# Altium integrated library NSC ADC.IntLib: 493 symbols (part 10 of 17)
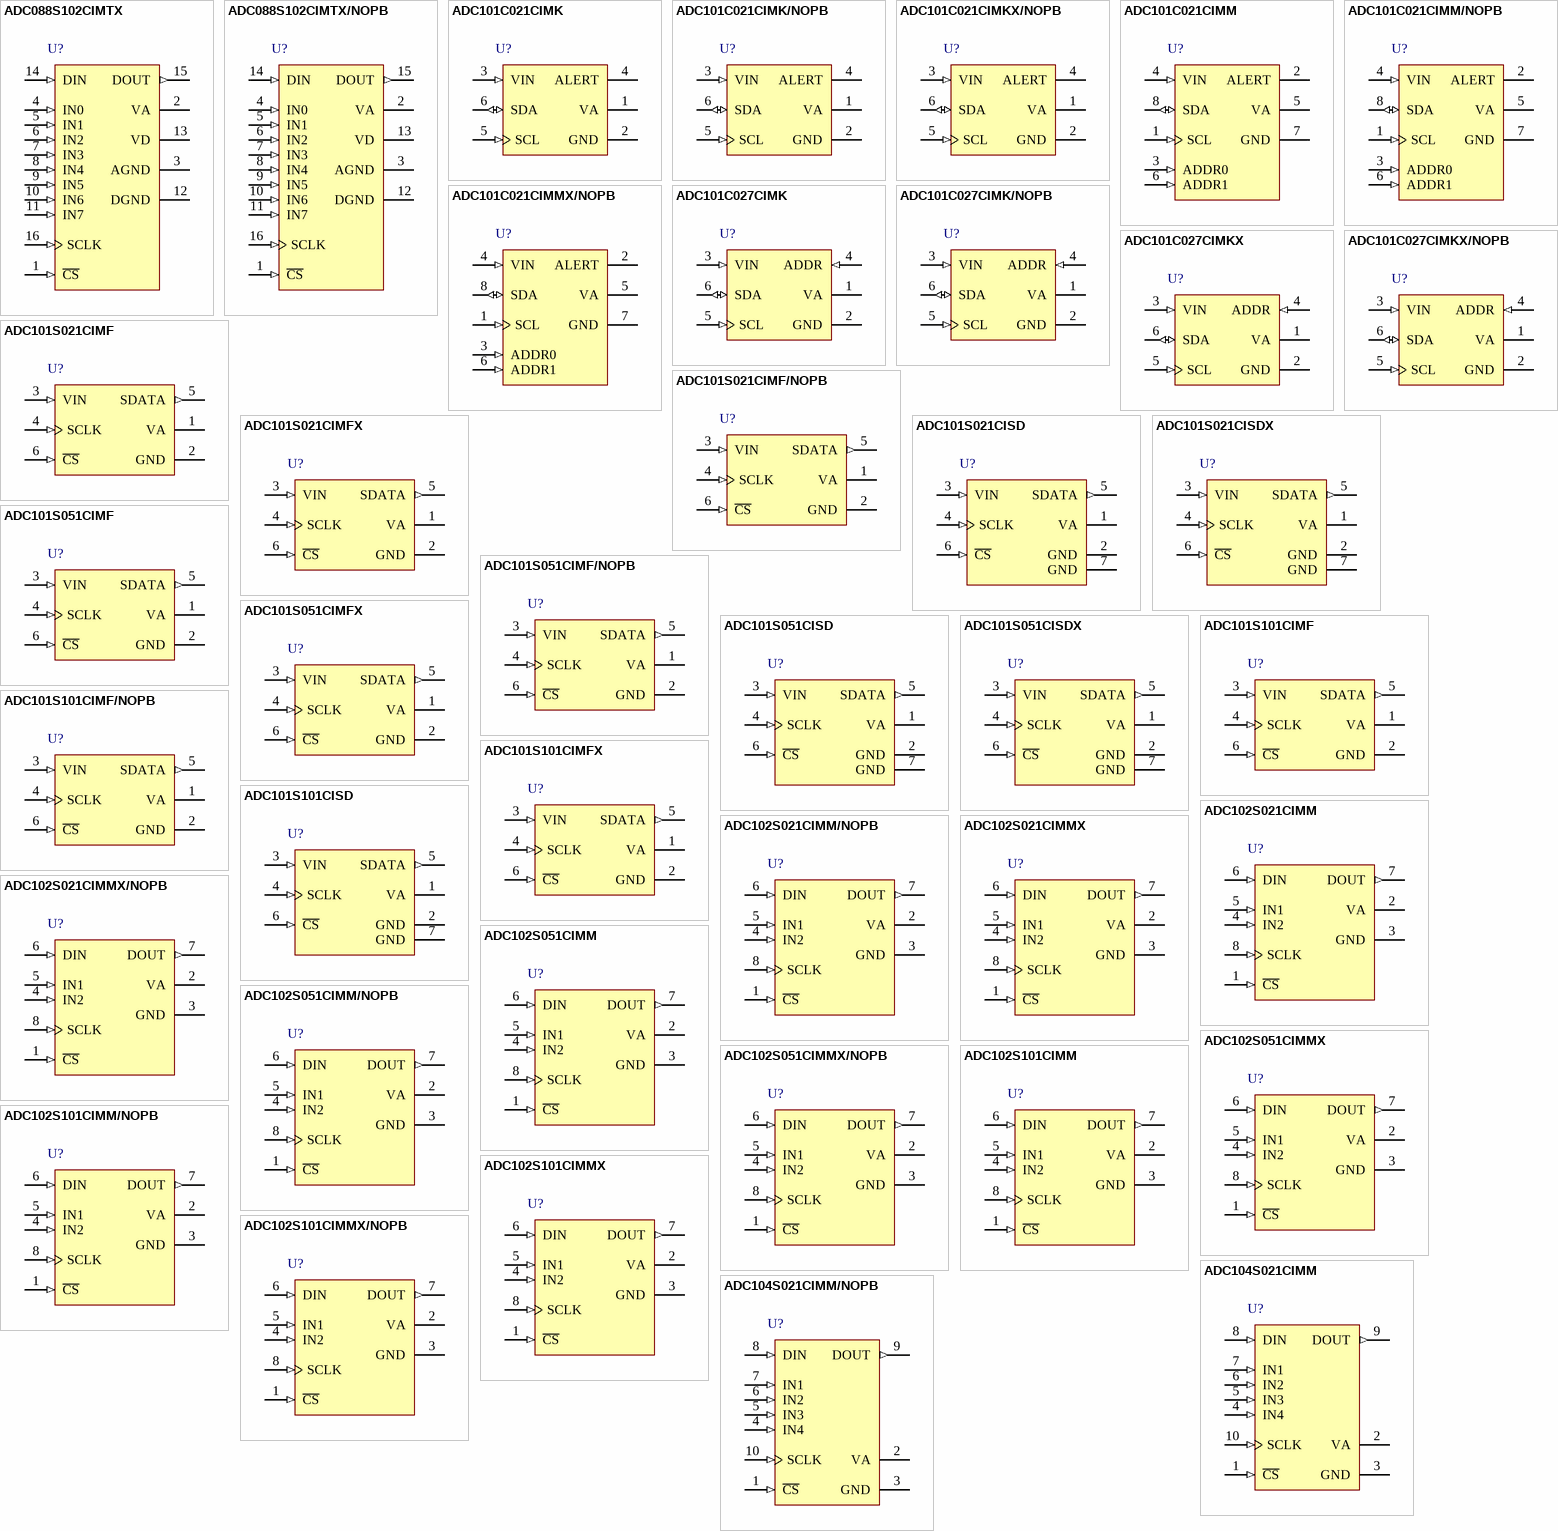
[diagram p45: symbols ADC088S102CIMTX to ADC104S021CIMM/NOPB]

## ADC101S101CISD
designator U?
1MSPS, 10-Bit A/D Converter, 7-pin LLP; PartNumber: ADC101S101CISD; Manufacturer: National Semiconductor; PackageTopMarking: XTT*X2C; PowerWise: Y; CompType: ADC IC; Published: 4-Dec-2008; DatasheetVersion: Jan-2010; PackageVersion: revA, Nov-2003; PackageReference: SDB06A; Publisher: Altium Limited; PackageDescription: LLP, Plastic, Dual, 2.2 x 2.5 x 0.8mm Body, 6 Lead, 0.65mm Pitch, No Pullback; Supplier 1: Farnell; Supplier Part Number 1: 1312530; RoHS: N; PinCount: 6; ComponentLink1Description: ADC101S101 Datasheet; ComponentLink1URL: http://www.national.com/ds/AD/ADC101S101.pdf; ComponentLink2Description: ADC101S101 Web Page; ComponentLink2URL: http://www.national.com/pf/AD/ADC101S101.html; ComponentLink3Description: SDB06A Package Page; ComponentLink3URL: http://www.national.com/packaging/folders/sdb06a.html
footprint SDB06A (SON, 6-Leads, Body 2.2x2.5mm, Pitch 0.65mm, NSC Recommended (SC-70 Land))
pins: 1 VA (power), 2 GND (power), 3 VIN (in), 4 SCLK (in), 5 SDATA (out), 6 ~{CS} (in), 7 GND (power)

## ADC102S021CIMM
designator U?
2 Channel, 200 kSPS, 10-Bit A/D Converter, 8-pin Mini SOIC; PartNumber: ADC102S021CIMM; Manufacturer: National Semiconductor; PackageTopMarking: ZXTT*X17C; PowerWise: Y; CompType: ADC IC; Published: 4-Dec-2008; DatasheetVersion: Jan-2010; PackageVersion: revF, Apr-2008; PackageReference: MUA08A; Publisher: Altium Limited; PackageDescription: MINI SOIC, .118 x .118 x .034in, 8 Lead, .0256in Pitch; Supplier 1: Farnell; Supplier Part Number 1: 1007986; RoHS: N; PinCount: 8; Code_JEDEC: MO-187-AA; ComponentLink1Description: ADC102S021 Datasheet; ComponentLink1URL: http://www.national.com/ds/AD/ADC102S021.pdf; ComponentLink2Description: ADC102S021 Web Page; ComponentLink2URL: http://www.national.com/pf/AD/ADC102S021.html; ComponentLink3Description: MUA08A Package Page; ComponentLink3URL: http://www.national.com/packaging/folders/mua08a.html
footprint MUA08A_N (TSOP, 8-Leads, Body 3x3mm, Pitch 0.65mm, IPC Medium Density)
footprint MUA08A_L (TSOP, 8-Leads, Body 3x3mm, Pitch 0.65mm, IPC High Density)
footprint MUA08A_M (TSOP, 8-Leads, Body 3x3mm, Pitch 0.65mm, IPC Low Density)
pins: 1 ~{CS} (in), 2 VA (power), 3 GND (power), 4 IN2 (in), 5 IN1 (in), 6 DIN (in), 7 DOUT (out), 8 SCLK (in)

## ADC102S021CIMM/NOPB
designator U?
2 Channel, 50 kSPS to 200 kSPS, 10-Bit A/D Converter, 8-pin Mini SOIC, Pb-Free; PartNumber: ADC102S021CIMM/NOPB; Manufacturer: National Semiconductor; PackageTopMarking: ZXTT*X17C; PowerWise: Y; CompType: ADC IC; Published: 1-Mar-2010; DatasheetVersion: Jan-2010; PackageVersion: revF, Apr-2008; PackageReference: MUA08A; Publisher: Altium Limited; PackageDescription: MINI SOIC, .118 x .118 x .034in, 8 Lead, .0256in Pitch; Supplier 1: Digi-Key; Supplier Part Number 1: ADC102S021CIMMTR-ND; Supplier 2: Digi-Key; Supplier Part Number 2: ADC102S021CIMMCT-ND; Supplier 3: Digi-Key; Supplier Part Number 3: ADC102S021CIMMDKR-ND; RoHS: Y; PinCount: 8; Code_JEDEC: MO-187-AA; ComponentLink1Description: ADC102S021 Datasheet; ComponentLink1URL: http://www.national.com/ds/AD/ADC102S021.pdf; ComponentLink2Description: ADC102S021 Web Page; ComponentLink2URL: http://www.national.com/pf/AD/ADC102S021.html; ComponentLink3Description: MUA08A Package Page; ComponentLink3URL: http://www.national.com/packaging/folders/mua08a.html
footprint MUA08A_N (TSOP, 8-Leads, Body 3x3mm, Pitch 0.65mm, IPC Medium Density)
footprint MUA08A_L (TSOP, 8-Leads, Body 3x3mm, Pitch 0.65mm, IPC High Density)
footprint MUA08A_M (TSOP, 8-Leads, Body 3x3mm, Pitch 0.65mm, IPC Low Density)
pins: 1 ~{CS} (in), 2 VA (power), 3 GND (power), 4 IN2 (in), 5 IN1 (in), 6 DIN (in), 7 DOUT (out), 8 SCLK (in)

## ADC102S021CIMMX
designator U?
2 Channel, 50 kSPS to 200 kSPS, 10-Bit A/D Converter, 8-pin Mini SOIC; PartNumber: ADC102S021CIMMX; Manufacturer: National Semiconductor; PackageTopMarking: ZXTT*X17C; PowerWise: Y; CompType: ADC IC; Published: 1-Mar-2010; DatasheetVersion: Jan-2010; PackageVersion: revF, Apr-2008; PackageReference: MUA08A; Publisher: Altium Limited; PackageDescription: MINI SOIC, .118 x .118 x .034in, 8 Lead, .0256in Pitch; RoHS: N; PinCount: 8; Code_JEDEC: MO-187-AA; ComponentLink1Description: ADC102S021 Datasheet; ComponentLink1URL: http://www.national.com/ds/AD/ADC102S021.pdf; ComponentLink2Description: ADC102S021 Web Page; ComponentLink2URL: http://www.national.com/pf/AD/ADC102S021.html; ComponentLink3Description: MUA08A Package Page; ComponentLink3URL: http://www.national.com/packaging/folders/mua08a.html
footprint MUA08A_N (TSOP, 8-Leads, Body 3x3mm, Pitch 0.65mm, IPC Medium Density)
footprint MUA08A_L (TSOP, 8-Leads, Body 3x3mm, Pitch 0.65mm, IPC High Density)
footprint MUA08A_M (TSOP, 8-Leads, Body 3x3mm, Pitch 0.65mm, IPC Low Density)
pins: 1 ~{CS} (in), 2 VA (power), 3 GND (power), 4 IN2 (in), 5 IN1 (in), 6 DIN (in), 7 DOUT (out), 8 SCLK (in)

## ADC102S021CIMMX/NOPB
designator U?
2 Channel, 50 kSPS to 200 kSPS, 10-Bit A/D Converter, 8-pin Mini SOIC, Pb-Free; PartNumber: ADC102S021CIMMX/NOPB; Manufacturer: National Semiconductor; PackageTopMarking: ZXTT*X17C; PowerWise: Y; CompType: ADC IC; Published: 1-Mar-2010; DatasheetVersion: Jan-2010; PackageVersion: revF, Apr-2008; PackageReference: MUA08A; Publisher: Altium Limited; PackageDescription: MINI SOIC, .118 x .118 x .034in, 8 Lead, .0256in Pitch; Supplier 1: Digi-Key; Supplier Part Number 1: ADC102S021CIMMX-ND; RoHS: Y; PinCount: 8; Code_JEDEC: MO-187-AA; ComponentLink1Description: ADC102S021 Datasheet; ComponentLink1URL: http://www.national.com/ds/AD/ADC102S021.pdf; ComponentLink2Description: ADC102S021 Web Page; ComponentLink2URL: http://www.national.com/pf/AD/ADC102S021.html; ComponentLink3Description: MUA08A Package Page; ComponentLink3URL: http://www.national.com/packaging/folders/mua08a.html
footprint MUA08A_N (TSOP, 8-Leads, Body 3x3mm, Pitch 0.65mm, IPC Medium Density)
footprint MUA08A_L (TSOP, 8-Leads, Body 3x3mm, Pitch 0.65mm, IPC High Density)
footprint MUA08A_M (TSOP, 8-Leads, Body 3x3mm, Pitch 0.65mm, IPC Low Density)
pins: 1 ~{CS} (in), 2 VA (power), 3 GND (power), 4 IN2 (in), 5 IN1 (in), 6 DIN (in), 7 DOUT (out), 8 SCLK (in)

## ADC102S051CIMM
designator U?
2 Channel, 500 kSPS, 10-Bit A/D Converter, 8-pin Mini SOIC; PartNumber: ADC102S051CIMM; Manufacturer: National Semiconductor; PackageTopMarking: ZXTT*X05C; PowerWise: Y; CompType: ADC IC; Published: 4-Dec-2008; DatasheetVersion: Jan-2010; PackageVersion: revF, Apr-2008; PackageReference: MUA08A; Publisher: Altium Limited; PackageDescription: MINI SOIC, .118 x .118 x .034in, 8 Lead, .0256in Pitch; Supplier 1: Farnell; Supplier Part Number 1: 1007987; RoHS: N; PinCount: 8; Code_JEDEC: MO-187-AA; ComponentLink1Description: ADC102S051 Datasheet; ComponentLink1URL: http://www.national.com/ds/AD/ADC102S051.pdf; ComponentLink2Description: ADC102S051 Web Page; ComponentLink2URL: http://www.national.com/pf/AD/ADC102S051.html; ComponentLink3Description: MUA08A Package Page; ComponentLink3URL: http://www.national.com/packaging/folders/mua08a.html
footprint MUA08A_N (TSOP, 8-Leads, Body 3x3mm, Pitch 0.65mm, IPC Medium Density)
footprint MUA08A_L (TSOP, 8-Leads, Body 3x3mm, Pitch 0.65mm, IPC High Density)
footprint MUA08A_M (TSOP, 8-Leads, Body 3x3mm, Pitch 0.65mm, IPC Low Density)
pins: 1 ~{CS} (in), 2 VA (power), 3 GND (power), 4 IN2 (in), 5 IN1 (in), 6 DIN (in), 7 DOUT (out), 8 SCLK (in)

## ADC102S051CIMM/NOPB
designator U?
2 Channel, 200 kSPS to 500 kSPS, 10-Bit A/D Converter, 8-pin Mini SOIC, Pb-Free; PartNumber: ADC102S051CIMM/NOPB; Manufacturer: National Semiconductor; PackageTopMarking: ZXTT*X05C; PowerWise: Y; CompType: ADC IC; Published: 1-Mar-2010; DatasheetVersion: Jan-2010; PackageVersion: revF, Apr-2008; PackageReference: MUA08A; Publisher: Altium Limited; PackageDescription: MINI SOIC, .118 x .118 x .034in, 8 Lead, .0256in Pitch; Supplier 1: Digi-Key; Supplier Part Number 1: ADC102S051CIMMTR-ND; Supplier 2: Digi-Key; Supplier Part Number 2: ADC102S051CIMMCT-ND; Supplier 3: Digi-Key; Supplier Part Number 3: ADC102S051CIMMDKR-ND; RoHS: Y; PinCount: 8; Code_JEDEC: MO-187-AA; ComponentLink1Description: ADC102S051 Datasheet; ComponentLink1URL: http://www.national.com/ds/AD/ADC102S051.pdf; ComponentLink2Description: ADC102S051 Web Page; ComponentLink2URL: http://www.national.com/pf/AD/ADC102S051.html; ComponentLink3Description: MUA08A Package Page; ComponentLink3URL: http://www.national.com/packaging/folders/mua08a.html
footprint MUA08A_N (TSOP, 8-Leads, Body 3x3mm, Pitch 0.65mm, IPC Medium Density)
footprint MUA08A_L (TSOP, 8-Leads, Body 3x3mm, Pitch 0.65mm, IPC High Density)
footprint MUA08A_M (TSOP, 8-Leads, Body 3x3mm, Pitch 0.65mm, IPC Low Density)
pins: 1 ~{CS} (in), 2 VA (power), 3 GND (power), 4 IN2 (in), 5 IN1 (in), 6 DIN (in), 7 DOUT (out), 8 SCLK (in)

## ADC102S051CIMMX
designator U?
2 Channel, 200 kSPS to 500 kSPS, 10-Bit A/D Converter, 8-pin Mini SOIC; PartNumber: ADC102S051CIMMX; Manufacturer: National Semiconductor; PackageTopMarking: ZXTT*X05C; PowerWise: Y; CompType: ADC IC; Published: 1-Mar-2010; DatasheetVersion: Jan-2010; PackageVersion: revF, Apr-2008; PackageReference: MUA08A; Publisher: Altium Limited; PackageDescription: MINI SOIC, .118 x .118 x .034in, 8 Lead, .0256in Pitch; RoHS: N; PinCount: 8; Code_JEDEC: MO-187-AA; ComponentLink1Description: ADC102S051 Datasheet; ComponentLink1URL: http://www.national.com/ds/AD/ADC102S051.pdf; ComponentLink2Description: ADC102S051 Web Page; ComponentLink2URL: http://www.national.com/pf/AD/ADC102S051.html; ComponentLink3Description: MUA08A Package Page; ComponentLink3URL: http://www.national.com/packaging/folders/mua08a.html
footprint MUA08A_N (TSOP, 8-Leads, Body 3x3mm, Pitch 0.65mm, IPC Medium Density)
footprint MUA08A_L (TSOP, 8-Leads, Body 3x3mm, Pitch 0.65mm, IPC High Density)
footprint MUA08A_M (TSOP, 8-Leads, Body 3x3mm, Pitch 0.65mm, IPC Low Density)
pins: 1 ~{CS} (in), 2 VA (power), 3 GND (power), 4 IN2 (in), 5 IN1 (in), 6 DIN (in), 7 DOUT (out), 8 SCLK (in)

## ADC102S051CIMMX/NOPB
designator U?
2 Channel, 200 kSPS to 500 kSPS, 10-Bit A/D Converter, 8-pin Mini SOIC, Pb-Free; PartNumber: ADC102S051CIMMX/NOPB; Manufacturer: National Semiconductor; PackageTopMarking: ZXTT*X05C; PowerWise: Y; CompType: ADC IC; Published: 1-Mar-2010; DatasheetVersion: Jan-2010; PackageVersion: revF, Apr-2008; PackageReference: MUA08A; Publisher: Altium Limited; PackageDescription: MINI SOIC, .118 x .118 x .034in, 8 Lead, .0256in Pitch; Supplier 1: Digi-Key; Supplier Part Number 1: ADC102S051CIMMX-ND; RoHS: Y; PinCount: 8; Code_JEDEC: MO-187-AA; ComponentLink1Description: ADC102S051 Datasheet; ComponentLink1URL: http://www.national.com/ds/AD/ADC102S051.pdf; ComponentLink2Description: ADC102S051 Web Page; ComponentLink2URL: http://www.national.com/pf/AD/ADC102S051.html; ComponentLink3Description: MUA08A Package Page; ComponentLink3URL: http://www.national.com/packaging/folders/mua08a.html
footprint MUA08A_N (TSOP, 8-Leads, Body 3x3mm, Pitch 0.65mm, IPC Medium Density)
footprint MUA08A_L (TSOP, 8-Leads, Body 3x3mm, Pitch 0.65mm, IPC High Density)
footprint MUA08A_M (TSOP, 8-Leads, Body 3x3mm, Pitch 0.65mm, IPC Low Density)
pins: 1 ~{CS} (in), 2 VA (power), 3 GND (power), 4 IN2 (in), 5 IN1 (in), 6 DIN (in), 7 DOUT (out), 8 SCLK (in)

## ADC102S101CIMM
designator U?
2 Channel, 1 MSPS, 10-Bit A/D Converter, 8-pin Mini SOIC; PartNumber: ADC102S101CIMM; Manufacturer: National Semiconductor; PackageTopMarking: ZXTT*X23C; PowerWise: Y; CompType: ADC IC; Published: 4-Dec-2008; DatasheetVersion: Jan-2010; PackageVersion: revF, Apr-2008; PackageReference: MUA08A; Publisher: Altium Limited; PackageDescription: MINI SOIC, .118 x .118 x .034in, 8 Lead, .0256in Pitch; Supplier 1: Farnell; Supplier Part Number 1: 1007988; RoHS: N; PinCount: 8; Code_JEDEC: MO-187-AA; ComponentLink1Description: ADC102S101 Datasheet; ComponentLink1URL: http://www.national.com/ds/AD/ADC102S101.pdf; ComponentLink2Description: ADC102S101 Web Page; ComponentLink2URL: http://www.national.com/pf/AD/ADC102S101.html; ComponentLink3Description: MUA08A Package Page; ComponentLink3URL: http://www.national.com/packaging/folders/mua08a.html
footprint MUA08A_N (TSOP, 8-Leads, Body 3x3mm, Pitch 0.65mm, IPC Medium Density)
footprint MUA08A_L (TSOP, 8-Leads, Body 3x3mm, Pitch 0.65mm, IPC High Density)
footprint MUA08A_M (TSOP, 8-Leads, Body 3x3mm, Pitch 0.65mm, IPC Low Density)
pins: 1 ~{CS} (in), 2 VA (power), 3 GND (power), 4 IN2 (in), 5 IN1 (in), 6 DIN (in), 7 DOUT (out), 8 SCLK (in)

## ADC102S101CIMM/NOPB
designator U?
2 Channel, 500 kSPS to 1 MSPS, 10-Bit A/D Converter, 8-pin Mini SOIC, Pb-Free; PartNumber: ADC102S101CIMM/NOPB; Manufacturer: National Semiconductor; PackageTopMarking: ZXTT*X23C; PowerWise: Y; CompType: ADC IC; Published: 1-Mar-2010; DatasheetVersion: Jan-2010; PackageVersion: revF, Apr-2008; PackageReference: MUA08A; Publisher: Altium Limited; PackageDescription: MINI SOIC, .118 x .118 x .034in, 8 Lead, .0256in Pitch; Supplier 1: Digi-Key; Supplier Part Number 1: ADC102S101CIMMTR-ND; Supplier 2: Digi-Key; Supplier Part Number 2: ADC102S101CIMMCT-ND; Supplier 3: Digi-Key; Supplier Part Number 3: ADC102S101CIMMDKR-ND; Supplier 4: Farnell; Supplier Part Number 4: 1149931; RoHS: Y; PinCount: 8; Code_JEDEC: MO-187-AA; ComponentLink1Description: ADC102S101 Datasheet; ComponentLink1URL: http://www.national.com/ds/AD/ADC102S101.pdf; ComponentLink2Description: ADC102S101 Web Page; ComponentLink2URL: http://www.national.com/pf/AD/ADC102S101.html; ComponentLink3Description: MUA08A Package Page; ComponentLink3URL: http://www.national.com/packaging/folders/mua08a.html
footprint MUA08A_N (TSOP, 8-Leads, Body 3x3mm, Pitch 0.65mm, IPC Medium Density)
footprint MUA08A_L (TSOP, 8-Leads, Body 3x3mm, Pitch 0.65mm, IPC High Density)
footprint MUA08A_M (TSOP, 8-Leads, Body 3x3mm, Pitch 0.65mm, IPC Low Density)
pins: 1 ~{CS} (in), 2 VA (power), 3 GND (power), 4 IN2 (in), 5 IN1 (in), 6 DIN (in), 7 DOUT (out), 8 SCLK (in)

## ADC102S101CIMMX
designator U?
2 Channel, 500 kSPS to 1 MSPS, 10-Bit A/D Converter, 8-pin Mini SOIC; PartNumber: ADC102S101CIMMX; Manufacturer: National Semiconductor; PackageTopMarking: ZXTT*X23C; PowerWise: Y; CompType: ADC IC; Published: 1-Mar-2010; DatasheetVersion: Jan-2010; PackageVersion: revF, Apr-2008; PackageReference: MUA08A; Publisher: Altium Limited; PackageDescription: MINI SOIC, .118 x .118 x .034in, 8 Lead, .0256in Pitch; RoHS: N; PinCount: 8; Code_JEDEC: MO-187-AA; ComponentLink1Description: ADC102S101 Datasheet; ComponentLink1URL: http://www.national.com/ds/AD/ADC102S101.pdf; ComponentLink2Description: ADC102S101 Web Page; ComponentLink2URL: http://www.national.com/pf/AD/ADC102S101.html; ComponentLink3Description: MUA08A Package Page; ComponentLink3URL: http://www.national.com/packaging/folders/mua08a.html
footprint MUA08A_N (TSOP, 8-Leads, Body 3x3mm, Pitch 0.65mm, IPC Medium Density)
footprint MUA08A_L (TSOP, 8-Leads, Body 3x3mm, Pitch 0.65mm, IPC High Density)
footprint MUA08A_M (TSOP, 8-Leads, Body 3x3mm, Pitch 0.65mm, IPC Low Density)
pins: 1 ~{CS} (in), 2 VA (power), 3 GND (power), 4 IN2 (in), 5 IN1 (in), 6 DIN (in), 7 DOUT (out), 8 SCLK (in)

## ADC102S101CIMMX/NOPB
designator U?
2 Channel, 500 kSPS to 1 MSPS, 10-Bit A/D Converter, 8-pin Mini SOIC, Pb-Free; PartNumber: ADC102S101CIMMX/NOPB; Manufacturer: National Semiconductor; PackageTopMarking: ZXTT*X23C; PowerWise: Y; CompType: ADC IC; Published: 1-Mar-2010; DatasheetVersion: Jan-2010; PackageVersion: revF, Apr-2008; PackageReference: MUA08A; Publisher: Altium Limited; PackageDescription: MINI SOIC, .118 x .118 x .034in, 8 Lead, .0256in Pitch; Supplier 1: Digi-Key; Supplier Part Number 1: ADC102S101CIMMX-ND; RoHS: Y; PinCount: 8; Code_JEDEC: MO-187-AA; ComponentLink1Description: ADC102S101 Datasheet; ComponentLink1URL: http://www.national.com/ds/AD/ADC102S101.pdf; ComponentLink2Description: ADC102S101 Web Page; ComponentLink2URL: http://www.national.com/pf/AD/ADC102S101.html; ComponentLink3Description: MUA08A Package Page; ComponentLink3URL: http://www.national.com/packaging/folders/mua08a.html
footprint MUA08A_N (TSOP, 8-Leads, Body 3x3mm, Pitch 0.65mm, IPC Medium Density)
footprint MUA08A_L (TSOP, 8-Leads, Body 3x3mm, Pitch 0.65mm, IPC High Density)
footprint MUA08A_M (TSOP, 8-Leads, Body 3x3mm, Pitch 0.65mm, IPC Low Density)
pins: 1 ~{CS} (in), 2 VA (power), 3 GND (power), 4 IN2 (in), 5 IN1 (in), 6 DIN (in), 7 DOUT (out), 8 SCLK (in)

## ADC104S021CIMM
designator U?
4 Channel 200 kSPS, 10-Bit A/D Converter, 10-pin MSOP; PartNumber: ADC104S021CIMM; Manufacturer: National Semiconductor; PackageTopMarking: ZXTT*X20C; PowerWise: Y; CompType: ADC IC; Published: 4-Dec-2008; DatasheetVersion: Feb-2010; PackageVersion: revB, Jul-2003; PackageReference: MUB10A; Publisher: Altium Limited; PackageDescription: Mini-SO, Molded, .118 x .118 x .034in Body, 10 Lead, .0197in Pitch; Supplier 1: Farnell; Supplier Part Number 1: 1007989; RoHS: N; PinCount: 10; Code_JEDEC: MO-187-BA; ComponentLink1Description: ADC104S021 Datasheet; ComponentLink1URL: http://www.national.com/ds/AD/ADC104S021.pdf; ComponentLink2Description: ADC104S021 Web Page; ComponentLink2URL: http://www.national.com/pf/AD/ADC104S021.html; ComponentLink3Description: MUB10A Package Page; ComponentLink3URL: http://www.national.com/packaging/folders/mub10a.html
footprint MUB10A_N (TSSOP, 10-Leads, Body 3x3mm, Pitch 0.5mm, IPC Medium Density)
footprint MUB10A_L (TSSOP, 10-Leads, Body 3x3mm, Pitch 0.5mm, IPC High Density)
footprint MUB10A_M (TSSOP, 10-Leads, Body 3x3mm, Pitch 0.5mm, IPC Low Density)
pins: 1 ~{CS} (in), 2 VA (power), 3 GND (power), 4 IN4 (in), 5 IN3 (in), 6 IN2 (in), 7 IN1 (in), 8 DIN (in), 9 DOUT (out), 10 SCLK (in)

## ADC104S021CIMM/NOPB
designator U?
4 Channel, 50 kSPS to 200 kSPS, 10-Bit A/D Converter, 10-pin Mini SOIC, Pb-Free; PartNumber: ADC104S021CIMM/NOPB; Manufacturer: National Semiconductor; PackageTopMarking: ZXTT*X20C; PowerWise: Y; CompType: ADC IC; Published: 1-Mar-2010; DatasheetVersion: Feb-2010; PackageVersion: revB, Jul-2003; PackageReference: MUB10A; Publisher: Altium Limited; PackageDescription: Mini-SO, Molded, .118 x .118 x .034in Body, 10 Lead, .0197in Pitch; Supplier 1: Digi-Key; Supplier Part Number 1: ADC104S021CIMMTR-ND; Supplier 2: Digi-Key; Supplier Part Number 2: ADC104S021CIMMCT-ND; Supplier 3: Digi-Key; Supplier Part Number 3: ADC104S021CIMMDKR-ND; Supplier 4: Farnell; Supplier Part Number 4: 1559295; RoHS: Y; PinCount: 10; Code_JEDEC: MO-187-BA; ComponentLink1Description: ADC104S021 Datasheet; ComponentLink1URL: http://www.national.com/ds/AD/ADC104S021.pdf; ComponentLink2Description: ADC104S021 Web Page; ComponentLink2URL: http://www.national.com/pf/AD/ADC104S021.html; ComponentLink3Description: MUB10A Package Page; ComponentLink3URL: http://www.national.com/packaging/folders/mub10a.html
footprint MUB10A_N (TSSOP, 10-Leads, Body 3x3mm, Pitch 0.5mm, IPC Medium Density)
footprint MUB10A_L (TSSOP, 10-Leads, Body 3x3mm, Pitch 0.5mm, IPC High Density)
footprint MUB10A_M (TSSOP, 10-Leads, Body 3x3mm, Pitch 0.5mm, IPC Low Density)
pins: 1 ~{CS} (in), 2 VA (power), 3 GND (power), 4 IN4 (in), 5 IN3 (in), 6 IN2 (in), 7 IN1 (in), 8 DIN (in), 9 DOUT (out), 10 SCLK (in)

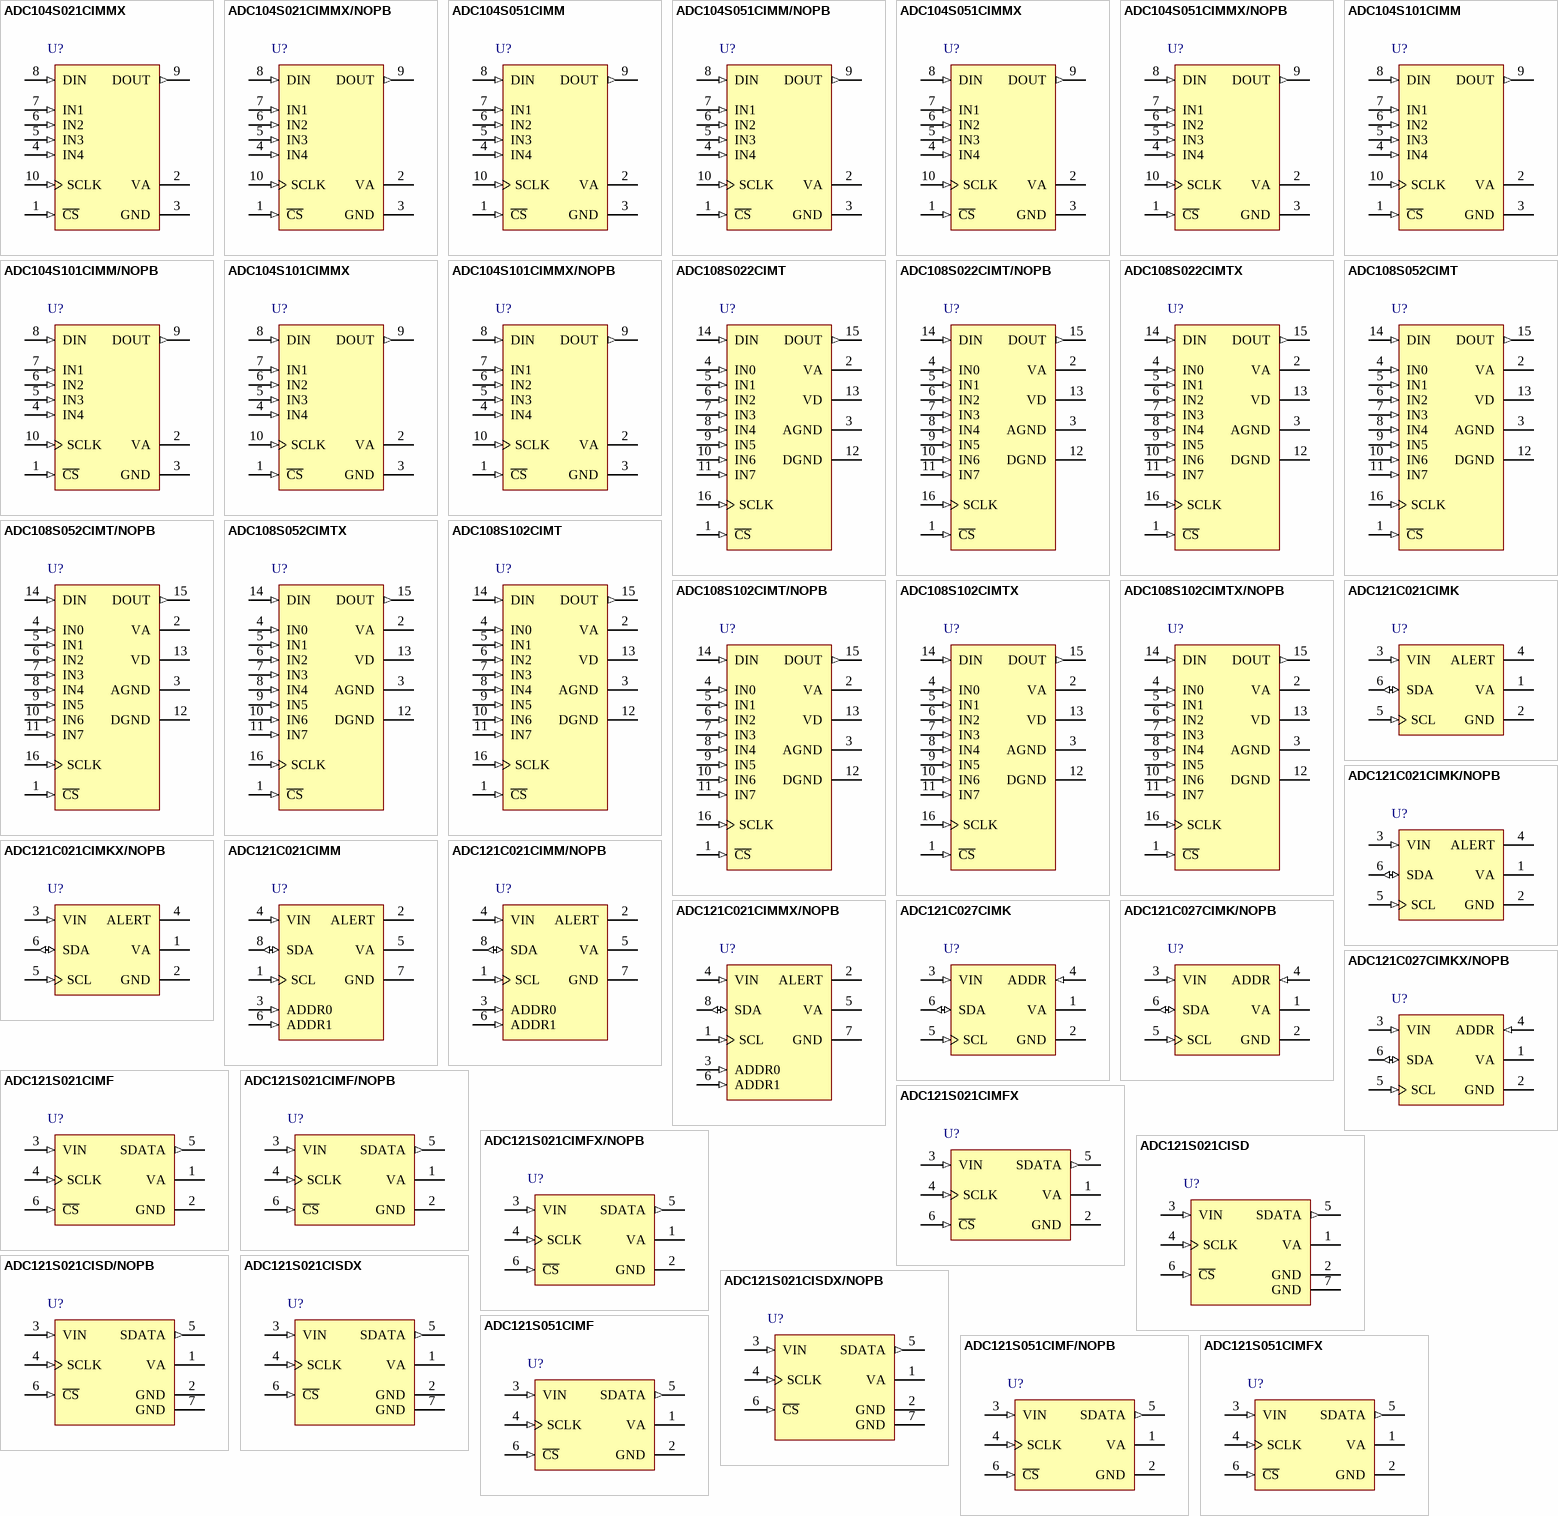
[diagram p25: symbols ADC104S021CIMMX to ADC121S051CIMFX]

## ADC104S021CIMMX
designator U?
4 Channel, 50 kSPS to 200 kSPS, 10-Bit A/D Converter, 10-pin Mini SOIC; PartNumber: ADC104S021CIMMX; Manufacturer: National Semiconductor; PackageTopMarking: ZXTT*X20C; PowerWise: Y; CompType: ADC IC; Published: 1-Mar-2010; DatasheetVersion: Feb-2010; PackageVersion: revB, Jul-2003; PackageReference: MUB10A; Publisher: Altium Limited; PackageDescription: Mini-SO, Molded, .118 x .118 x .034in Body, 10 Lead, .0197in Pitch; RoHS: N; PinCount: 10; Code_JEDEC: MO-187-BA; ComponentLink1Description: ADC104S021 Datasheet; ComponentLink1URL: http://www.national.com/ds/AD/ADC104S021.pdf; ComponentLink2Description: ADC104S021 Web Page; ComponentLink2URL: http://www.national.com/pf/AD/ADC104S021.html; ComponentLink3Description: MUB10A Package Page; ComponentLink3URL: http://www.national.com/packaging/folders/mub10a.html
footprint MUB10A_N (TSSOP, 10-Leads, Body 3x3mm, Pitch 0.5mm, IPC Medium Density)
footprint MUB10A_L (TSSOP, 10-Leads, Body 3x3mm, Pitch 0.5mm, IPC High Density)
footprint MUB10A_M (TSSOP, 10-Leads, Body 3x3mm, Pitch 0.5mm, IPC Low Density)
pins: 1 ~{CS} (in), 2 VA (power), 3 GND (power), 4 IN4 (in), 5 IN3 (in), 6 IN2 (in), 7 IN1 (in), 8 DIN (in), 9 DOUT (out), 10 SCLK (in)

## ADC104S021CIMMX/NOPB
designator U?
4 Channel, 50 kSPS to 200 kSPS, 10-Bit A/D Converter, 10-pin Mini SOIC, Pb-Free; PartNumber: ADC104S021CIMMX/NOPB; Manufacturer: National Semiconductor; PackageTopMarking: ZXTT*X20C; PowerWise: Y; CompType: ADC IC; Published: 1-Mar-2010; DatasheetVersion: Feb-2010; PackageVersion: revB, Jul-2003; PackageReference: MUB10A; Publisher: Altium Limited; PackageDescription: Mini-SO, Molded, .118 x .118 x .034in Body, 10 Lead, .0197in Pitch; Supplier 1: Digi-Key; Supplier Part Number 1: ADC104S021CIMMX-ND; RoHS: Y; PinCount: 10; Code_JEDEC: MO-187-BA; ComponentLink1Description: ADC104S021 Datasheet; ComponentLink1URL: http://www.national.com/ds/AD/ADC104S021.pdf; ComponentLink2Description: ADC104S021 Web Page; ComponentLink2URL: http://www.national.com/pf/AD/ADC104S021.html; ComponentLink3Description: MUB10A Package Page; ComponentLink3URL: http://www.national.com/packaging/folders/mub10a.html
footprint MUB10A_N (TSSOP, 10-Leads, Body 3x3mm, Pitch 0.5mm, IPC Medium Density)
footprint MUB10A_L (TSSOP, 10-Leads, Body 3x3mm, Pitch 0.5mm, IPC High Density)
footprint MUB10A_M (TSSOP, 10-Leads, Body 3x3mm, Pitch 0.5mm, IPC Low Density)
pins: 1 ~{CS} (in), 2 VA (power), 3 GND (power), 4 IN4 (in), 5 IN3 (in), 6 IN2 (in), 7 IN1 (in), 8 DIN (in), 9 DOUT (out), 10 SCLK (in)

## ADC104S051CIMM
designator U?
4 Channel 500 kSPS, 10-Bit A/D Converter, 10-pin MSOP; PartNumber: ADC104S051CIMM; Manufacturer: National Semiconductor; PackageTopMarking: ZXTT*X11C; PowerWise: Y; CompType: ADC IC; Published: 4-Dec-2008; DatasheetVersion: Feb-2010; PackageVersion: revB, Jul-2003; PackageReference: MUB10A; Publisher: Altium Limited; PackageDescription: Mini-SO, Molded, .118 x .118 x .034in Body, 10 Lead, .0197in Pitch; Supplier 1: Farnell; Supplier Part Number 1: 1007990; RoHS: N; PinCount: 10; Code_JEDEC: MO-187-BA; ComponentLink1Description: ADC104S051 Datasheet; ComponentLink1URL: http://www.national.com/ds/AD/ADC104S051.pdf; ComponentLink2Description: ADC104S051 Web Page; ComponentLink2URL: http://www.national.com/pf/AD/ADC104S051.html; ComponentLink3Description: MUB10A Package Page; ComponentLink3URL: http://www.national.com/packaging/folders/mub10a.html
footprint MUB10A_N (TSSOP, 10-Leads, Body 3x3mm, Pitch 0.5mm, IPC Medium Density)
footprint MUB10A_L (TSSOP, 10-Leads, Body 3x3mm, Pitch 0.5mm, IPC High Density)
footprint MUB10A_M (TSSOP, 10-Leads, Body 3x3mm, Pitch 0.5mm, IPC Low Density)
pins: 1 ~{CS} (in), 2 VA (power), 3 GND (power), 4 IN4 (in), 5 IN3 (in), 6 IN2 (in), 7 IN1 (in), 8 DIN (in), 9 DOUT (out), 10 SCLK (in)

## ADC104S051CIMM/NOPB
designator U?
4 Channel 200 kSPS to 500 kSPS, 10-Bit A/D Converter, 10-pin Mini SOIC, Pb-Free; PartNumber: ADC104S051CIMM/NOPB; Manufacturer: National Semiconductor; PackageTopMarking: ZXTT*X11C; PowerWise: Y; CompType: ADC IC; Published: 1-Mar-2010; DatasheetVersion: Feb-2010; PackageVersion: revB, Jul-2003; PackageReference: MUB10A; Publisher: Altium Limited; PackageDescription: Mini-SO, Molded, .118 x .118 x .034in Body, 10 Lead, .0197in Pitch; Supplier 1: Digi-Key; Supplier Part Number 1: ADC104S051CIMMTR-ND; Supplier 2: Digi-Key; Supplier Part Number 2: ADC104S051CIMMCT-ND; Supplier 3: Digi-Key; Supplier Part Number 3: ADC104S051CIMMDKR-ND; RoHS: Y; PinCount: 10; Code_JEDEC: MO-187-BA; ComponentLink1Description: ADC104S051 Datasheet; ComponentLink1URL: http://www.national.com/ds/AD/ADC104S051.pdf; ComponentLink2Description: ADC104S051 Web Page; ComponentLink2URL: http://www.national.com/pf/AD/ADC104S051.html; ComponentLink3Description: MUB10A Package Page; ComponentLink3URL: http://www.national.com/packaging/folders/mub10a.html
footprint MUB10A_N (TSSOP, 10-Leads, Body 3x3mm, Pitch 0.5mm, IPC Medium Density)
footprint MUB10A_L (TSSOP, 10-Leads, Body 3x3mm, Pitch 0.5mm, IPC High Density)
footprint MUB10A_M (TSSOP, 10-Leads, Body 3x3mm, Pitch 0.5mm, IPC Low Density)
pins: 1 ~{CS} (in), 2 VA (power), 3 GND (power), 4 IN4 (in), 5 IN3 (in), 6 IN2 (in), 7 IN1 (in), 8 DIN (in), 9 DOUT (out), 10 SCLK (in)

## ADC104S051CIMMX
designator U?
4 Channel 200 kSPS to 500 kSPS, 10-Bit A/D Converter, 10-pin Mini SOIC; PartNumber: ADC104S051CIMMX; Manufacturer: National Semiconductor; PackageTopMarking: ZXTT*X11C; PowerWise: Y; CompType: ADC IC; Published: 1-Mar-2010; DatasheetVersion: Feb-2010; PackageVersion: revB, Jul-2003; PackageReference: MUB10A; Publisher: Altium Limited; PackageDescription: Mini-SO, Molded, .118 x .118 x .034in Body, 10 Lead, .0197in Pitch; RoHS: N; PinCount: 10; Code_JEDEC: MO-187-BA; ComponentLink1Description: ADC104S051 Datasheet; ComponentLink1URL: http://www.national.com/ds/AD/ADC104S051.pdf; ComponentLink2Description: ADC104S051 Web Page; ComponentLink2URL: http://www.national.com/pf/AD/ADC104S051.html; ComponentLink3Description: MUB10A Package Page; ComponentLink3URL: http://www.national.com/packaging/folders/mub10a.html
footprint MUB10A_N (TSSOP, 10-Leads, Body 3x3mm, Pitch 0.5mm, IPC Medium Density)
footprint MUB10A_L (TSSOP, 10-Leads, Body 3x3mm, Pitch 0.5mm, IPC High Density)
footprint MUB10A_M (TSSOP, 10-Leads, Body 3x3mm, Pitch 0.5mm, IPC Low Density)
pins: 1 ~{CS} (in), 2 VA (power), 3 GND (power), 4 IN4 (in), 5 IN3 (in), 6 IN2 (in), 7 IN1 (in), 8 DIN (in), 9 DOUT (out), 10 SCLK (in)

## ADC104S051CIMMX/NOPB
designator U?
4 Channel 200 kSPS to 500 kSPS, 10-Bit A/D Converter, 10-pin Mini SOIC, Pb-Free; PartNumber: ADC104S051CIMMX/NOPB; Manufacturer: National Semiconductor; PackageTopMarking: ZXTT*X11C; PowerWise: Y; CompType: ADC IC; Published: 1-Mar-2010; DatasheetVersion: Feb-2010; PackageVersion: revB, Jul-2003; PackageReference: MUB10A; Publisher: Altium Limited; PackageDescription: Mini-SO, Molded, .118 x .118 x .034in Body, 10 Lead, .0197in Pitch; Supplier 1: Digi-Key; Supplier Part Number 1: ADC104S051CIMMX-ND; RoHS: Y; PinCount: 10; Code_JEDEC: MO-187-BA; ComponentLink1Description: ADC104S051 Datasheet; ComponentLink1URL: http://www.national.com/ds/AD/ADC104S051.pdf; ComponentLink2Description: ADC104S051 Web Page; ComponentLink2URL: http://www.national.com/pf/AD/ADC104S051.html; ComponentLink3Description: MUB10A Package Page; ComponentLink3URL: http://www.national.com/packaging/folders/mub10a.html
footprint MUB10A_N (TSSOP, 10-Leads, Body 3x3mm, Pitch 0.5mm, IPC Medium Density)
footprint MUB10A_L (TSSOP, 10-Leads, Body 3x3mm, Pitch 0.5mm, IPC High Density)
footprint MUB10A_M (TSSOP, 10-Leads, Body 3x3mm, Pitch 0.5mm, IPC Low Density)
pins: 1 ~{CS} (in), 2 VA (power), 3 GND (power), 4 IN4 (in), 5 IN3 (in), 6 IN2 (in), 7 IN1 (in), 8 DIN (in), 9 DOUT (out), 10 SCLK (in)

## ADC104S101CIMM
designator U?
4 Channel 1 MSPS, 10-Bit A/D Converter, 10-pin MSOP; PartNumber: ADC104S101CIMM; Manufacturer: National Semiconductor; PackageTopMarking: ZXTT*X26C; PowerWise: Y; CompType: ADC IC; Published: 4-Dec-2008; DatasheetVersion: Feb-2010; PackageVersion: revB, Jul-2003; PackageReference: MUB10A; Publisher: Altium Limited; PackageDescription: Mini-SO, Molded, .118 x .118 x .034in Body, 10 Lead, .0197in Pitch; Supplier 1: Farnell; Supplier Part Number 1: 1007991; RoHS: N; PinCount: 10; Code_JEDEC: MO-187-BA; ComponentLink1Description: ADC104S101 Datasheet; ComponentLink1URL: http://www.national.com/ds/AD/ADC104S101.pdf; ComponentLink2Description: ADC104S101 Web Page; ComponentLink2URL: http://www.national.com/pf/AD/ADC104S101.html; ComponentLink3Description: MUB10A Package Page; ComponentLink3URL: http://www.national.com/packaging/folders/mub10a.html
footprint MUB10A_N (TSSOP, 10-Leads, Body 3x3mm, Pitch 0.5mm, IPC Medium Density)
footprint MUB10A_L (TSSOP, 10-Leads, Body 3x3mm, Pitch 0.5mm, IPC High Density)
footprint MUB10A_M (TSSOP, 10-Leads, Body 3x3mm, Pitch 0.5mm, IPC Low Density)
pins: 1 ~{CS} (in), 2 VA (power), 3 GND (power), 4 IN4 (in), 5 IN3 (in), 6 IN2 (in), 7 IN1 (in), 8 DIN (in), 9 DOUT (out), 10 SCLK (in)

## ADC104S101CIMM/NOPB
designator U?
4 Channel 500 kSPS to 1 MSPS, 10-Bit A/D Converter, 10-pin Mini SOIC, Pb-Free; PartNumber: ADC104S101CIMM/NOPB; Manufacturer: National Semiconductor; PackageTopMarking: ZXTT*X26C; PowerWise: Y; CompType: ADC IC; Published: 1-Mar-2010; DatasheetVersion: Feb-2010; PackageVersion: revB, Jul-2003; PackageReference: MUB10A; Publisher: Altium Limited; PackageDescription: Mini-SO, Molded, .118 x .118 x .034in Body, 10 Lead, .0197in Pitch; Supplier 1: Digi-Key; Supplier Part Number 1: ADC104S101CIMMTR-ND; Supplier 2: Digi-Key; Supplier Part Number 2: ADC104S101CIMMCT-ND; Supplier 3: Digi-Key; Supplier Part Number 3: ADC104S101CIMMDKR-ND; Supplier 4: Farnell; Supplier Part Number 4: 1149932; RoHS: Y; PinCount: 10; Code_JEDEC: MO-187-BA; ComponentLink1Description: ADC104S101 Datasheet; ComponentLink1URL: http://www.national.com/ds/AD/ADC104S101.pdf; ComponentLink2Description: ADC104S101 Web Page; ComponentLink2URL: http://www.national.com/pf/AD/ADC104S101.html; ComponentLink3Description: MUB10A Package Page; ComponentLink3URL: http://www.national.com/packaging/folders/mub10a.html
footprint MUB10A_N (TSSOP, 10-Leads, Body 3x3mm, Pitch 0.5mm, IPC Medium Density)
footprint MUB10A_L (TSSOP, 10-Leads, Body 3x3mm, Pitch 0.5mm, IPC High Density)
footprint MUB10A_M (TSSOP, 10-Leads, Body 3x3mm, Pitch 0.5mm, IPC Low Density)
pins: 1 ~{CS} (in), 2 VA (power), 3 GND (power), 4 IN4 (in), 5 IN3 (in), 6 IN2 (in), 7 IN1 (in), 8 DIN (in), 9 DOUT (out), 10 SCLK (in)

## ADC104S101CIMMX
designator U?
4 Channel 500 kSPS to 1 MSPS, 10-Bit A/D Converter, 10-pin Mini SOIC; PartNumber: ADC104S101CIMMX; Manufacturer: National Semiconductor; PackageTopMarking: ZXTT*X26C; PowerWise: Y; CompType: ADC IC; Published: 1-Mar-2010; DatasheetVersion: Feb-2010; PackageVersion: revB, Jul-2003; PackageReference: MUB10A; Publisher: Altium Limited; PackageDescription: Mini-SO, Molded, .118 x .118 x .034in Body, 10 Lead, .0197in Pitch; RoHS: N; PinCount: 10; Code_JEDEC: MO-187-BA; ComponentLink1Description: ADC104S101 Datasheet; ComponentLink1URL: http://www.national.com/ds/AD/ADC104S101.pdf; ComponentLink2Description: ADC104S101 Web Page; ComponentLink2URL: http://www.national.com/pf/AD/ADC104S101.html; ComponentLink3Description: MUB10A Package Page; ComponentLink3URL: http://www.national.com/packaging/folders/mub10a.html
footprint MUB10A_N (TSSOP, 10-Leads, Body 3x3mm, Pitch 0.5mm, IPC Medium Density)
footprint MUB10A_L (TSSOP, 10-Leads, Body 3x3mm, Pitch 0.5mm, IPC High Density)
footprint MUB10A_M (TSSOP, 10-Leads, Body 3x3mm, Pitch 0.5mm, IPC Low Density)
pins: 1 ~{CS} (in), 2 VA (power), 3 GND (power), 4 IN4 (in), 5 IN3 (in), 6 IN2 (in), 7 IN1 (in), 8 DIN (in), 9 DOUT (out), 10 SCLK (in)

## ADC104S101CIMMX/NOPB
designator U?
4 Channel 500 kSPS to 1 MSPS, 10-Bit A/D Converter, 10-pin Mini SOIC, Pb-Free; PartNumber: ADC104S101CIMMX/NOPB; Manufacturer: National Semiconductor; PackageTopMarking: ZXTT*X26C; PowerWise: Y; CompType: ADC IC; Published: 1-Mar-2010; DatasheetVersion: Feb-2010; PackageVersion: revB, Jul-2003; PackageReference: MUB10A; Publisher: Altium Limited; PackageDescription: Mini-SO, Molded, .118 x .118 x .034in Body, 10 Lead, .0197in Pitch; Supplier 1: Digi-Key; Supplier Part Number 1: ADC104S101CIMMX-ND; RoHS: Y; PinCount: 10; Code_JEDEC: MO-187-BA; ComponentLink1Description: ADC104S101 Datasheet; ComponentLink1URL: http://www.national.com/ds/AD/ADC104S101.pdf; ComponentLink2Description: ADC104S101 Web Page; ComponentLink2URL: http://www.national.com/pf/AD/ADC104S101.html; ComponentLink3Description: MUB10A Package Page; ComponentLink3URL: http://www.national.com/packaging/folders/mub10a.html
footprint MUB10A_N (TSSOP, 10-Leads, Body 3x3mm, Pitch 0.5mm, IPC Medium Density)
footprint MUB10A_L (TSSOP, 10-Leads, Body 3x3mm, Pitch 0.5mm, IPC High Density)
footprint MUB10A_M (TSSOP, 10-Leads, Body 3x3mm, Pitch 0.5mm, IPC Low Density)
pins: 1 ~{CS} (in), 2 VA (power), 3 GND (power), 4 IN4 (in), 5 IN3 (in), 6 IN2 (in), 7 IN1 (in), 8 DIN (in), 9 DOUT (out), 10 SCLK (in)

## ADC108S022CIMT
designator U?
8-Channel, 50 kSPS to 200 kSPS, 10-Bit A/D Converter, 16-pin TSSOP; PartNumber: ADC108S022CIMT; Manufacturer: National Semiconductor; PackageTopMarking: NSUZXYTT*108S022*CIMT; PowerWise: Y; CompType: ADC IC; Published: 4-Dec-2008; DatasheetVersion: Feb-2010; PackageVersion: revD, Jun-2003; PackageReference: MTC16; Publisher: Altium Limited; PackageDescription: Molded TSSOP, Jedec, 5 x 4.4 x 0.9mm Body, 16 Lead, 0.65mm Pitch; Supplier 1: Farnell; Supplier Part Number 1: 1250034; RoHS: N; PinCount: 16; Code_JEDEC: MO-153-AB; ComponentLink1Description: ADC108S022 Datasheet; ComponentLink1URL: http://www.national.com/ds/AD/ADC108S022.pdf; ComponentLink2Description: ADC108S022 Web Page; ComponentLink2URL: http://www.national.com/pf/AD/ADC108S022.html; ComponentLink3Description: MTC16 Package Page; ComponentLink3URL: http://www.national.com/packaging/folders/mtc16.html
footprint MTC16_N (TSOP, 16-Leads, Body 5x4.4mm, Pitch 0.65mm, IPC Medium Density)
footprint MTC16_L (TSOP, 16-Leads, Body 5x4.4mm, Pitch 0.65mm, IPC High Density)
footprint MTC16_M (TSOP, 16-Leads, Body 5x4.4mm, Pitch 0.65mm, IPC Low Density)
pins: 1 ~{CS} (in), 2 VA (power), 3 AGND (power), 4 IN0 (in), 5 IN1 (in), 6 IN2 (in), 7 IN3 (in), 8 IN4 (in), 9 IN5 (in), 10 IN6 (in), 11 IN7 (in), 12 DGND (power), 13 VD (power), 14 DIN (in), 15 DOUT (out), 16 SCLK (in)

## ADC108S022CIMT/NOPB
designator U?
8-Channel, 50 kSPS to 200 kSPS, 10-Bit A/D Converter, 16-pin TSSOP, Pb-Free; PartNumber: ADC108S022CIMT/NOPB; Manufacturer: National Semiconductor; PackageTopMarking: NSUZXYTT*108S022*CIMT; PowerWise: Y; CompType: ADC IC; Published: 1-Mar-2010; DatasheetVersion: Feb-2010; PackageVersion: revD, Jun-2003; PackageReference: MTC16; Publisher: Altium Limited; PackageDescription: Molded TSSOP, Jedec, 5 x 4.4 x 0.9mm Body, 16 Lead, 0.65mm Pitch; Supplier 1: Digi-Key; Supplier Part Number 1: ADC108S022CIMT-ND; RoHS: Y; PinCount: 16; Code_JEDEC: MO-153-AB; ComponentLink1Description: ADC108S022 Datasheet; ComponentLink1URL: http://www.national.com/ds/AD/ADC108S022.pdf; ComponentLink2Description: ADC108S022 Web Page; ComponentLink2URL: http://www.national.com/pf/AD/ADC108S022.html; ComponentLink3Description: MTC16 Package Page; ComponentLink3URL: http://www.national.com/packaging/folders/mtc16.html
footprint MTC16_N (TSOP, 16-Leads, Body 5x4.4mm, Pitch 0.65mm, IPC Medium Density)
footprint MTC16_L (TSOP, 16-Leads, Body 5x4.4mm, Pitch 0.65mm, IPC High Density)
footprint MTC16_M (TSOP, 16-Leads, Body 5x4.4mm, Pitch 0.65mm, IPC Low Density)
pins: 1 ~{CS} (in), 2 VA (power), 3 AGND (power), 4 IN0 (in), 5 IN1 (in), 6 IN2 (in), 7 IN3 (in), 8 IN4 (in), 9 IN5 (in), 10 IN6 (in), 11 IN7 (in), 12 DGND (power), 13 VD (power), 14 DIN (in), 15 DOUT (out), 16 SCLK (in)

## ADC108S022CIMTX
designator U?
8-Channel, 50 kSPS to 200 kSPS, 10-Bit A/D Converter, 16-pin TSSOP; PartNumber: ADC108S022CIMTX; Manufacturer: National Semiconductor; PackageTopMarking: NSUZXYTT*108S022*CIMT; PowerWise: Y; CompType: ADC IC; Published: 1-Mar-2010; DatasheetVersion: Feb-2010; PackageVersion: revD, Jun-2003; PackageReference: MTC16; Publisher: Altium Limited; PackageDescription: Molded TSSOP, Jedec, 5 x 4.4 x 0.9mm Body, 16 Lead, 0.65mm Pitch; RoHS: N; PinCount: 16; Code_JEDEC: MO-153-AB; ComponentLink1Description: ADC108S022 Datasheet; ComponentLink1URL: http://www.national.com/ds/AD/ADC108S022.pdf; ComponentLink2Description: ADC108S022 Web Page; ComponentLink2URL: http://www.national.com/pf/AD/ADC108S022.html; ComponentLink3Description: MTC16 Package Page; ComponentLink3URL: http://www.national.com/packaging/folders/mtc16.html
footprint MTC16_N (TSOP, 16-Leads, Body 5x4.4mm, Pitch 0.65mm, IPC Medium Density)
footprint MTC16_L (TSOP, 16-Leads, Body 5x4.4mm, Pitch 0.65mm, IPC High Density)
footprint MTC16_M (TSOP, 16-Leads, Body 5x4.4mm, Pitch 0.65mm, IPC Low Density)
pins: 1 ~{CS} (in), 2 VA (power), 3 AGND (power), 4 IN0 (in), 5 IN1 (in), 6 IN2 (in), 7 IN3 (in), 8 IN4 (in), 9 IN5 (in), 10 IN6 (in), 11 IN7 (in), 12 DGND (power), 13 VD (power), 14 DIN (in), 15 DOUT (out), 16 SCLK (in)

## ADC108S052CIMT
designator U?
8-Channel, 200 kSPS to 500 kSPS, 10-Bit A/D Converter, 16-pin TSSOP; PartNumber: ADC108S052CIMT; Manufacturer: National Semiconductor; PackageTopMarking: NSUZXYTT*108S052*CIMT; PowerWise: Y; CompType: ADC IC; Published: 4-Dec-2008; DatasheetVersion: Feb-2010; PackageVersion: revD, Jun-2003; PackageReference: MTC16; Publisher: Altium Limited; PackageDescription: Molded TSSOP, Jedec, 5 x 4.4 x 0.9mm Body, 16 Lead, 0.65mm Pitch; Supplier 1: Farnell; Supplier Part Number 1: 1250035; RoHS: N; PinCount: 16; Code_JEDEC: MO-153-AB; ComponentLink1Description: ADC108S052 Datasheet; ComponentLink1URL: http://www.national.com/ds/AD/ADC108S052.pdf; ComponentLink2Description: ADC108S052 Web Page; ComponentLink2URL: http://www.national.com/pf/AD/ADC108S052.html; ComponentLink3Description: MTC16 Package Page; ComponentLink3URL: http://www.national.com/packaging/folders/mtc16.html
footprint MTC16_N (TSOP, 16-Leads, Body 5x4.4mm, Pitch 0.65mm, IPC Medium Density)
footprint MTC16_L (TSOP, 16-Leads, Body 5x4.4mm, Pitch 0.65mm, IPC High Density)
footprint MTC16_M (TSOP, 16-Leads, Body 5x4.4mm, Pitch 0.65mm, IPC Low Density)
pins: 1 ~{CS} (in), 2 VA (power), 3 AGND (power), 4 IN0 (in), 5 IN1 (in), 6 IN2 (in), 7 IN3 (in), 8 IN4 (in), 9 IN5 (in), 10 IN6 (in), 11 IN7 (in), 12 DGND (power), 13 VD (power), 14 DIN (in), 15 DOUT (out), 16 SCLK (in)

## ADC108S052CIMT/NOPB
designator U?
8-Channel, 200 kSPS to 500 kSPS, 10-Bit A/D Converter, 16-pin TSSOP, Pb-Free; PartNumber: ADC108S052CIMT/NOPB; Manufacturer: National Semiconductor; PackageTopMarking: NSUZXYTT*108S052*CIMT; PowerWise: Y; CompType: ADC IC; Published: 1-Mar-2010; DatasheetVersion: Feb-2010; PackageVersion: revD, Jun-2003; PackageReference: MTC16; Publisher: Altium Limited; PackageDescription: Molded TSSOP, Jedec, 5 x 4.4 x 0.9mm Body, 16 Lead, 0.65mm Pitch; Supplier 1: Digi-Key; Supplier Part Number 1: ADC108S052CIMT-ND; RoHS: Y; PinCount: 16; Code_JEDEC: MO-153-AB; ComponentLink1Description: ADC108S052 Datasheet; ComponentLink1URL: http://www.national.com/ds/AD/ADC108S052.pdf; ComponentLink2Description: ADC108S052 Web Page; ComponentLink2URL: http://www.national.com/pf/AD/ADC108S052.html; ComponentLink3Description: MTC16 Package Page; ComponentLink3URL: http://www.national.com/packaging/folders/mtc16.html
footprint MTC16_N (TSOP, 16-Leads, Body 5x4.4mm, Pitch 0.65mm, IPC Medium Density)
footprint MTC16_L (TSOP, 16-Leads, Body 5x4.4mm, Pitch 0.65mm, IPC High Density)
footprint MTC16_M (TSOP, 16-Leads, Body 5x4.4mm, Pitch 0.65mm, IPC Low Density)
pins: 1 ~{CS} (in), 2 VA (power), 3 AGND (power), 4 IN0 (in), 5 IN1 (in), 6 IN2 (in), 7 IN3 (in), 8 IN4 (in), 9 IN5 (in), 10 IN6 (in), 11 IN7 (in), 12 DGND (power), 13 VD (power), 14 DIN (in), 15 DOUT (out), 16 SCLK (in)

## ADC108S052CIMTX
designator U?
8-Channel, 200 kSPS to 500 kSPS, 10-Bit A/D Converter, 16-pin TSSOP; PartNumber: ADC108S052CIMTX; Manufacturer: National Semiconductor; PackageTopMarking: NSUZXYTT*108S052*CIMT; PowerWise: Y; CompType: ADC IC; Published: 1-Mar-2010; DatasheetVersion: Feb-2010; PackageVersion: revD, Jun-2003; PackageReference: MTC16; Publisher: Altium Limited; PackageDescription: Molded TSSOP, Jedec, 5 x 4.4 x 0.9mm Body, 16 Lead, 0.65mm Pitch; RoHS: N; PinCount: 16; Code_JEDEC: MO-153-AB; ComponentLink1Description: ADC108S052 Datasheet; ComponentLink1URL: http://www.national.com/ds/AD/ADC108S052.pdf; ComponentLink2Description: ADC108S052 Web Page; ComponentLink2URL: http://www.national.com/pf/AD/ADC108S052.html; ComponentLink3Description: MTC16 Package Page; ComponentLink3URL: http://www.national.com/packaging/folders/mtc16.html
footprint MTC16_N (TSOP, 16-Leads, Body 5x4.4mm, Pitch 0.65mm, IPC Medium Density)
footprint MTC16_L (TSOP, 16-Leads, Body 5x4.4mm, Pitch 0.65mm, IPC High Density)
footprint MTC16_M (TSOP, 16-Leads, Body 5x4.4mm, Pitch 0.65mm, IPC Low Density)
pins: 1 ~{CS} (in), 2 VA (power), 3 AGND (power), 4 IN0 (in), 5 IN1 (in), 6 IN2 (in), 7 IN3 (in), 8 IN4 (in), 9 IN5 (in), 10 IN6 (in), 11 IN7 (in), 12 DGND (power), 13 VD (power), 14 DIN (in), 15 DOUT (out), 16 SCLK (in)

## ADC108S102CIMT
designator U?
8-Channel, 500 kSPS to 1 MSPS, 10-Bit A/D Converter, 16-pin TSSOP; PartNumber: ADC108S102CIMT; Manufacturer: National Semiconductor; PackageTopMarking: NSUZXYTT*108S102*CIMT; PowerWise: Y; CompType: ADC IC; Published: 4-Dec-2008; DatasheetVersion: Sep-2005; PackageVersion: revD, Jun-2003; PackageReference: MTC16; Publisher: Altium Limited; PackageDescription: Molded TSSOP, Jedec, 5 x 4.4 x 0.9mm Body, 16 Lead, 0.65mm Pitch; Supplier 1: Farnell; Supplier Part Number 1: 1286726; RoHS: N; PinCount: 16; Code_JEDEC: MO-153-AB; ComponentLink1Description: ADC108S102 Datasheet; ComponentLink1URL: http://www.national.com/ds/AD/ADC108S102.pdf; ComponentLink2Description: ADC108S102 Web Page; ComponentLink2URL: http://www.national.com/pf/AD/ADC108S102.html; ComponentLink3Description: MTC16 Package Page; ComponentLink3URL: http://www.national.com/packaging/folders/mtc16.html
footprint MTC16_N (TSOP, 16-Leads, Body 5x4.4mm, Pitch 0.65mm, IPC Medium Density)
footprint MTC16_L (TSOP, 16-Leads, Body 5x4.4mm, Pitch 0.65mm, IPC High Density)
footprint MTC16_M (TSOP, 16-Leads, Body 5x4.4mm, Pitch 0.65mm, IPC Low Density)
pins: 1 ~{CS} (in), 2 VA (power), 3 AGND (power), 4 IN0 (in), 5 IN1 (in), 6 IN2 (in), 7 IN3 (in), 8 IN4 (in), 9 IN5 (in), 10 IN6 (in), 11 IN7 (in), 12 DGND (power), 13 VD (power), 14 DIN (in), 15 DOUT (out), 16 SCLK (in)

## ADC108S102CIMT/NOPB
designator U?
8-Channel, 500 kSPS to 1 MSPS, 10-Bit A/D Converter, 16-pin TSSOP, Pb-Free; PartNumber: ADC108S102CIMT/NOPB; Manufacturer: National Semiconductor; PackageTopMarking: NSUZXYTT*108S102*CIMT; PowerWise: Y; CompType: ADC IC; Published: 1-Mar-2010; DatasheetVersion: Sep-2005; PackageVersion: revD, Jun-2003; PackageReference: MTC16; Publisher: Altium Limited; PackageDescription: Molded TSSOP, Jedec, 5 x 4.4 x 0.9mm Body, 16 Lead, 0.65mm Pitch; Supplier 1: Digi-Key; Supplier Part Number 1: ADC108S102CIMT-ND; RoHS: Y; PinCount: 16; Code_JEDEC: MO-153-AB; ComponentLink1Description: ADC108S102 Datasheet; ComponentLink1URL: http://www.national.com/ds/AD/ADC108S102.pdf; ComponentLink2Description: ADC108S102 Web Page; ComponentLink2URL: http://www.national.com/pf/AD/ADC108S102.html; ComponentLink3Description: MTC16 Package Page; ComponentLink3URL: http://www.national.com/packaging/folders/mtc16.html
footprint MTC16_N (TSOP, 16-Leads, Body 5x4.4mm, Pitch 0.65mm, IPC Medium Density)
footprint MTC16_L (TSOP, 16-Leads, Body 5x4.4mm, Pitch 0.65mm, IPC High Density)
footprint MTC16_M (TSOP, 16-Leads, Body 5x4.4mm, Pitch 0.65mm, IPC Low Density)
pins: 1 ~{CS} (in), 2 VA (power), 3 AGND (power), 4 IN0 (in), 5 IN1 (in), 6 IN2 (in), 7 IN3 (in), 8 IN4 (in), 9 IN5 (in), 10 IN6 (in), 11 IN7 (in), 12 DGND (power), 13 VD (power), 14 DIN (in), 15 DOUT (out), 16 SCLK (in)

## ADC108S102CIMTX
designator U?
8-Channel, 500 kSPS to 1 MSPS, 10-Bit A/D Converter, 16-pin TSSOP; PartNumber: ADC108S102CIMTX; Manufacturer: National Semiconductor; PackageTopMarking: NSUZXYTT*108S102*CIMT; PowerWise: Y; CompType: ADC IC; Published: 1-Mar-2010; DatasheetVersion: Sep-2005; PackageVersion: revD, Jun-2003; PackageReference: MTC16; Publisher: Altium Limited; PackageDescription: Molded TSSOP, Jedec, 5 x 4.4 x 0.9mm Body, 16 Lead, 0.65mm Pitch; RoHS: N; PinCount: 16; Code_JEDEC: MO-153-AB; ComponentLink1Description: ADC108S102 Datasheet; ComponentLink1URL: http://www.national.com/ds/AD/ADC108S102.pdf; ComponentLink2Description: ADC108S102 Web Page; ComponentLink2URL: http://www.national.com/pf/AD/ADC108S102.html; ComponentLink3Description: MTC16 Package Page; ComponentLink3URL: http://www.national.com/packaging/folders/mtc16.html
footprint MTC16_N (TSOP, 16-Leads, Body 5x4.4mm, Pitch 0.65mm, IPC Medium Density)
footprint MTC16_L (TSOP, 16-Leads, Body 5x4.4mm, Pitch 0.65mm, IPC High Density)
footprint MTC16_M (TSOP, 16-Leads, Body 5x4.4mm, Pitch 0.65mm, IPC Low Density)
pins: 1 ~{CS} (in), 2 VA (power), 3 AGND (power), 4 IN0 (in), 5 IN1 (in), 6 IN2 (in), 7 IN3 (in), 8 IN4 (in), 9 IN5 (in), 10 IN6 (in), 11 IN7 (in), 12 DGND (power), 13 VD (power), 14 DIN (in), 15 DOUT (out), 16 SCLK (in)

## ADC108S102CIMTX/NOPB
designator U?
8-Channel, 500 kSPS to 1 MSPS, 10-Bit A/D Converter, 16-pin TSSOP, Pb-Free; PartNumber: ADC108S102CIMTX/NOPB; Manufacturer: National Semiconductor; PackageTopMarking: NSUZXYTT*108S102*CIMT; PowerWise: Y; CompType: ADC IC; Published: 1-Mar-2010; DatasheetVersion: Sep-2005; PackageVersion: revD, Jun-2003; PackageReference: MTC16; Publisher: Altium Limited; PackageDescription: Molded TSSOP, Jedec, 5 x 4.4 x 0.9mm Body, 16 Lead, 0.65mm Pitch; Supplier 1: Digi-Key; Supplier Part Number 1: ADC108S102CIMTX-ND; RoHS: Y; PinCount: 16; Code_JEDEC: MO-153-AB; ComponentLink1Description: ADC108S102 Datasheet; ComponentLink1URL: http://www.national.com/ds/AD/ADC108S102.pdf; ComponentLink2Description: ADC108S102 Web Page; ComponentLink2URL: http://www.national.com/pf/AD/ADC108S102.html; ComponentLink3Description: MTC16 Package Page; ComponentLink3URL: http://www.national.com/packaging/folders/mtc16.html
footprint MTC16_N (TSOP, 16-Leads, Body 5x4.4mm, Pitch 0.65mm, IPC Medium Density)
footprint MTC16_L (TSOP, 16-Leads, Body 5x4.4mm, Pitch 0.65mm, IPC High Density)
footprint MTC16_M (TSOP, 16-Leads, Body 5x4.4mm, Pitch 0.65mm, IPC Low Density)
pins: 1 ~{CS} (in), 2 VA (power), 3 AGND (power), 4 IN0 (in), 5 IN1 (in), 6 IN2 (in), 7 IN3 (in), 8 IN4 (in), 9 IN5 (in), 10 IN6 (in), 11 IN7 (in), 12 DGND (power), 13 VD (power), 14 DIN (in), 15 DOUT (out), 16 SCLK (in)

## ADC121C021CIMK
designator U?
I2C-Compatible, 12-Bit Analog-to-Digital Converter (ADC) with Alert Pin, 6-pin Tiny SOT23; PartNumber: ADC121C021CIMK; Manufacturer: National Semiconductor; PackageTopMarking: X30C*XTT; PowerWise: Y; CompType: ADC IC; Published: 4-Dec-2008; DatasheetVersion: Jan-2008; PackageVersion: revE, Nov-2008; PackageReference: MK06A; Publisher: Altium Limited; PackageDescription: Molded TSOT, 2.97 x 1.65 x 0.87mm Body, 6 Lead, 0.95mm Pitch; Supplier 1: Farnell; Supplier Part Number 1: 1552428; RoHS: N; PinCount: 6; Code_JEDEC: MO-193-AA; Code_IPC: SOT26A-6; ComponentLink1Description: ADC121C021 Datasheet; ComponentLink1URL: http://www.national.com/ds/AD/ADC121C021.pdf; ComponentLink2Description: ADC121C021 Web Page; ComponentLink2URL: http://www.national.com/pf/AD/ADC121C021.html; ComponentLink3Description: MK06A Package Page; ComponentLink3URL: http://www.national.com/packaging/folders/mk06a.html
footprint MK06A_N (SOT23, 6-Leads, Body 3.0x1.7mm, Pitch 0.95mm, Lead Span 2.9mm, IPC Medium Density)
footprint MK06A_L (SOT23, 6-Leads, Body 3.0x1.7mm, Pitch 0.95mm, Lead Span 2.9mm, IPC High Density)
footprint MK06A_M (SOT23, 6-Leads, Body 3.0x1.7mm, Pitch 0.95mm, Lead Span 2.9mm, IPC Low Density)
pins: 1 VA (power), 2 GND (power), 3 VIN (in), 4 ALERT (oc), 5 SCL (in), 6 SDA (io)

## ADC121C021CIMK/NOPB
designator U?
I2C-Compatible, 12-Bit Analog-to-Digital Converter with Alert Pin, 6-pin Tiny SOT23, Pb-Free; PartNumber: ADC121C021CIMK/NOPB; Manufacturer: National Semiconductor; PackageTopMarking: X30C*XTT; PowerWise: Y; CompType: ADC IC; Published: 1-Mar-2010; DatasheetVersion: Jan-2008; PackageVersion: revE, Nov-2008; PackageReference: MK06A; Publisher: Altium Limited; PackageDescription: Molded TSOT, 2.97 x 1.65 x 0.87mm Body, 6 Lead, 0.95mm Pitch; Supplier 1: Digi-Key; Supplier Part Number 1: ADC121C021CIMKTR-ND; Supplier 2: Digi-Key; Supplier Part Number 2: ADC121C021CIMKCT-ND; Supplier 3: Digi-Key; Supplier Part Number 3: ADC121C021CIMKDKR-ND; RoHS: Y; PinCount: 6; Code_JEDEC: MO-193-AA; Code_IPC: SOT26A-6; ComponentLink1Description: ADC121C021 Datasheet; ComponentLink1URL: http://www.national.com/ds/AD/ADC121C021.pdf; ComponentLink2Description: ADC121C021 Web Page; ComponentLink2URL: http://www.national.com/pf/AD/ADC121C021.html; ComponentLink3Description: MK06A Package Page; ComponentLink3URL: http://www.national.com/packaging/folders/mk06a.html
footprint MK06A_N (SOT23, 6-Leads, Body 3.0x1.7mm, Pitch 0.95mm, Lead Span 2.9mm, IPC Medium Density)
footprint MK06A_L (SOT23, 6-Leads, Body 3.0x1.7mm, Pitch 0.95mm, Lead Span 2.9mm, IPC High Density)
footprint MK06A_M (SOT23, 6-Leads, Body 3.0x1.7mm, Pitch 0.95mm, Lead Span 2.9mm, IPC Low Density)
pins: 1 VA (power), 2 GND (power), 3 VIN (in), 4 ALERT (oc), 5 SCL (in), 6 SDA (io)